# EAGLE library part PCA9634 (library bschulz)
PCA9634 - I2C LED Driver, 8 Channel Characteristics: Vcc: 2.3V ~ 5.5V IOut: >25mA IQ: 2.9μA @ 3.3V PWM Resolution: 256 Steps Operating Temperature: -40°C to 85°C Digikey: 568-8717-1-ND (QFN) <https://www.digikey.com/en/products/detail/nxp-usa-inc/PCA9634BS-118/1300982>
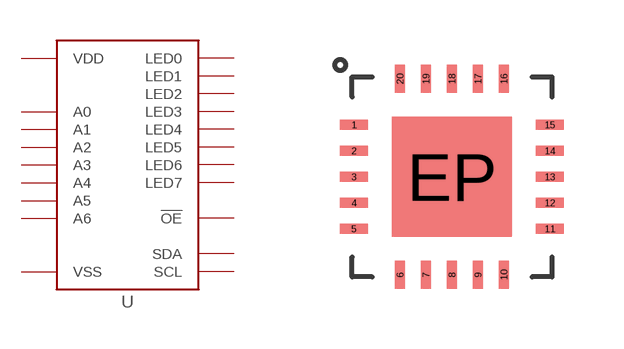
[diagram p166: symbol with the pads of QFN20_5X5; footprint QFN20_5X5]

Designator prefix U

## PCA9634QFN (DIGIKEY: 568-8717-1-ND; DISP: PCA9634; MF: NXP; MPN: PCA9634BS,118)  [QFN20_5X5]
1  A2  in
2  A3  in
3  A4  in
4  LED0  out
5  LED1  out
6  LED2  out
7  LED3  out
8  VSS  pwr
9  LED4  out
10  LED5  out
11  LED6  out
12  LED7  out
13  !OE  in
14  A5  in
15  A6  in
16  SCL
17  SDA  in
18  VDD  pwr
19  A0  in
20  A1  in
EP  VSS  pwr

## Footprint QFN20_5X5 (pad centres in mm)
QFN, 20 pos, 0.65mm pitch, 5x5mm body
smd 0.7 x 0.25: 1 -2.45,1.3; 2 -2.45,0.65; 3 -2.45,0; 4 -2.45,-0.65; 5 -2.45,-1.3; 11 2.45,-1.3; 12 2.45,-0.65; 13 2.45,0; 14 2.45,0.65; 15 2.45,1.3
smd 0.25 x 0.7: 6 -1.3,-2.45; 7 -0.65,-2.45; 8 0,-2.45; 9 0.65,-2.45; 10 1.3,-2.45; 16 1.3,2.45; 17 0.65,2.45; 18 0,2.45; 19 -0.65,2.45; 20 -1.3,2.45
smd 3 x 3: EP 0,0